# Altium footprint library ACS712ELCTR-20A-T.PcbLib: 1 footprints
Each footprint in its own frame and in the unit in brackets; x right, y up, seen from the top. Pads: shape width x height; smd on the part's side, far side on the other; paste and mask are expansions set on the pad; w line width, h text height; cw(c..) or ccw(c..) is an arc to the next point about the centre after c.
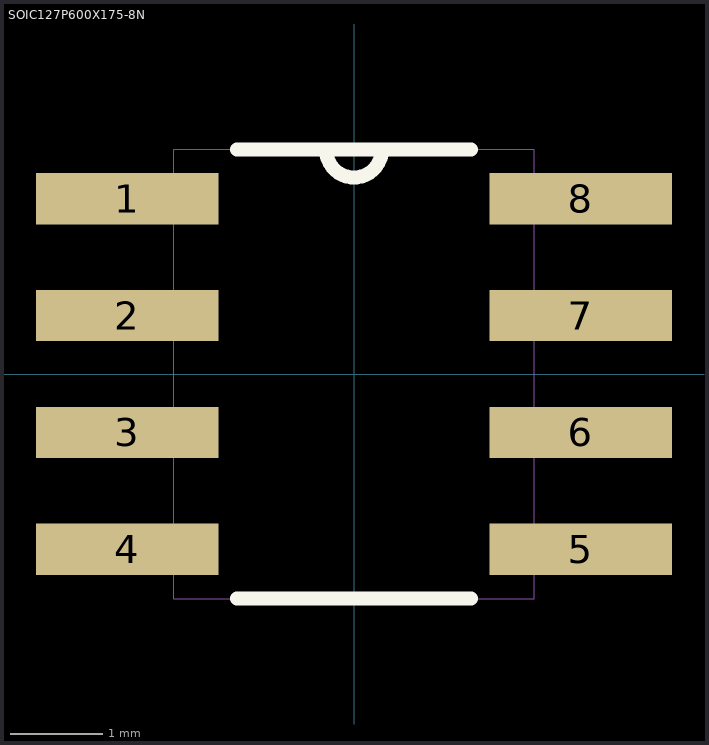
[diagram p0: the footprint, top view; thin cyan lines are the x and y axes]

## SOIC127P600X175-8N [mil]
pads (8):
  rect 78x22 smd: 1(-97,75) 2(-97,25) 3(-97,-25) 4(-97,-75) 5(97,-75) 6(97,-25) 7(97,25) 8(97,75)
Top Overlay:
  lines w6: -50,-96 50,-96 ; -50,96 -12,96 ; 50,96 12,96 ; -12,96 ccw(c0,96) 12,96 ; -12,96 12,96
Mechanical 1:
  lines w0: -12,96 ccw(c0,96) 12,96 ; -12,96 -77,96 -77,-96 77,-96 77,96 12,96 ; -12,96 12,96 ; -122,-85 -77,-85 -77,-65 -122,-65 -122,-85 ; -122,-35 -77,-35 -77,-15 -122,-15 -122,-35 ; -122,15 -77,15 -77,35 -122,35 -122,15 ; -122,65 -77,65 -77,85 -122,85 -122,65 ; 77,-85 122,-85 122,-65 77,-65 77,-85 ; 77,-35 122,-35 122,-15 77,-15 77,-35 ; 77,15 122,15 122,35 77,35 77,15 ; 77,65 122,65 122,85 77,85 77,65
3D body "Allegro-LC-Package.STEP": height 62.75, standoff -0.25, extent -118.11,-97.91 118.11,95